# EAGLE library part DM3AT (library microSD)
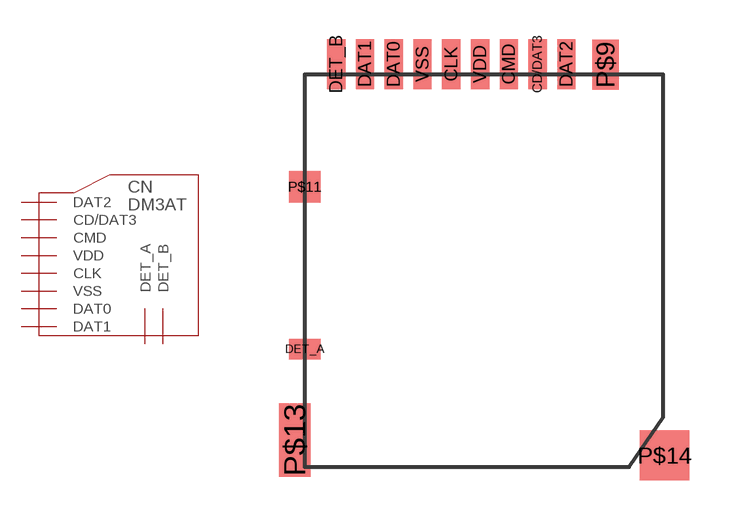
[diagram p0: symbol with the pads of DM3AT; footprint DM3AT]

Designator prefix CN

## DM3AT  [DM3AT]
CD/DAT3  CD/DAT3
CLK  CLK
CMD  CMD
DAT0  DAT0
DAT1  DAT1
DAT2  DAT2
DET_A  DET_A
DET_B  DET_B
VDD  VDD
VSS  VSS

## Footprint DM3AT (pad centres in mm)
smd 0.7 x 1.9: CD/DAT3 2.2,6.4; CLK -1.1,6.4; CMD 1.1,6.4; DAT0 -3.3,6.4; DAT1 -4.4,6.4; DAT2 3.3,6.4; DET_B -5.5,6.4; VDD 0,6.4; VSS -2.2,6.4
smd 1.2 x 0.8: DET_A -6.7,-4.5
smd 1 x 1.9: P$9 4.8,6.381
smd 1.2 x 1.2: P$11 -6.7,1.7
smd 1.2 x 2.8: P$13 -7.081,-7.973
smd 1.9 x 1.9: P$14 7.054,-8.562